# Altium footprint library MAYA-W2.PcbLib: 3 footprints
Each footprint in its own frame and in the unit in brackets; x right, y up, seen from the top. Pads: shape width x height; smd on the part's side, far side on the other; paste and mask are expansions set on the pad; w line width, h text height; cw(c..) or ccw(c..) is an arc to the next point about the centre after c.
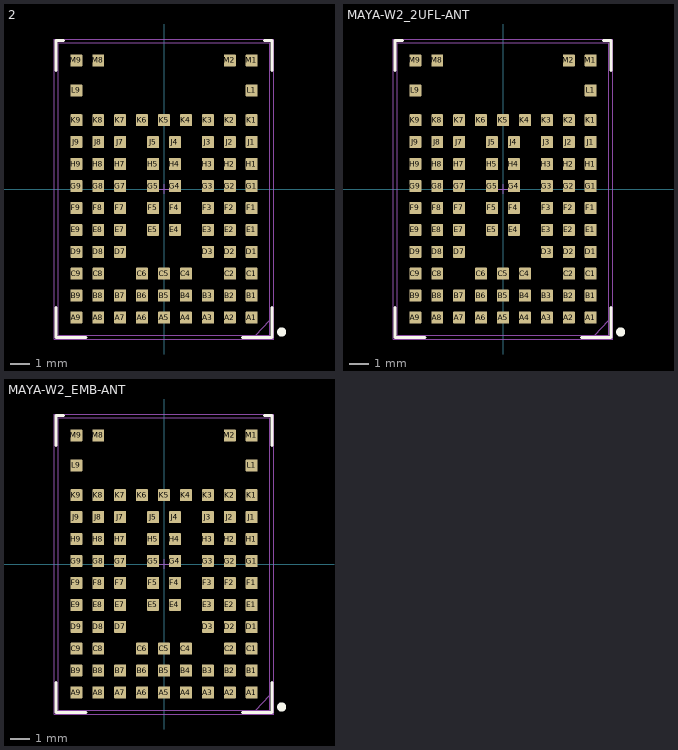
[diagram p0: the footprints below, top view; thin cyan lines are the x and y axes]

## 2 [mm] "MAYA-W2 Footprint 86 Pin,  / Antenna pins connection"
height 2.12
pads (86):
  rrect10% 0.6x0.6 smd mask+0.05: A1(4.4,-6.45) A2(3.3,-6.45) A3(2.2,-6.45) A4(1.1,-6.45) A5(0,-6.45) A6(-1.1,-6.45) A7(-2.2,-6.45) A8(-3.3,-6.45) A9(-4.4,-6.45) B1(4.4,-5.35) B2(3.3,-5.35) B3(2.2,-5.35) B4(1.1,-5.35) B5(0,-5.35) B6(-1.1,-5.35) B7(-2.2,-5.35) B8(-3.3,-5.35) B9(-4.4,-5.35) C1(4.4,-4.25) C2(3.3,-4.25) C4(1.1,-4.25) C5(0,-4.25) C6(-1.1,-4.25) C8(-3.3,-4.25) C9(-4.4,-4.25) D1(4.4,-3.15) D2(3.3,-3.15) D3(2.2,-3.15) D7(-2.2,-3.15) D8(-3.3,-3.15) D9(-4.4,-3.15) E1(4.4,-2.05) E2(3.3,-2.05) E3(2.2,-2.05) E4(0.55,-2.05) E5(-0.55,-2.05) E7(-2.2,-2.05) E8(-3.3,-2.05) E9(-4.4,-2.05) F1(4.4,-0.95) F2(3.3,-0.95) F3(2.2,-0.95) F4(0.55,-0.95) F5(-0.55,-0.95) F7(-2.2,-0.95) F8(-3.3,-0.95) F9(-4.4,-0.95) G1(4.4,0.15) G2(3.3,0.15) G3(2.2,0.15) G4(0.55,0.15) G5(-0.55,0.15) G7(-2.2,0.15) G8(-3.3,0.15) G9(-4.4,0.15) H1(4.4,1.25) H2(3.3,1.25) H3(2.2,1.25) H4(0.55,1.25) H5(-0.55,1.25) H7(-2.2,1.25) H8(-3.3,1.25) H9(-4.4,1.25) J1(4.4,2.35) J2(3.3,2.35) J3(2.2,2.35) J4(0.55,2.35) J5(-0.55,2.35) J7(-2.2,2.35) J8(-3.3,2.35) J9(-4.4,2.35) K1(4.4,3.45) K2(3.3,3.45) K3(2.2,3.45) K4(1.1,3.45) K5(0,3.45) K6(-1.1,3.45) K7(-2.2,3.45) K8(-3.3,3.45) K9(-4.4,3.45) L1(4.4,4.95) L9(-4.4,4.95) M1(4.4,6.45) M2(3.3,6.45) M8(-3.3,6.45) M9(-4.4,6.45)
Top Overlay:
  circle w0.254: c5.9,-7.175 r0.1
  lines w0.15: -5.425,-5.95 -5.425,-7.45 -3.925,-7.45 ; -5.425,5.95 -5.425,7.45 -5.05,7.45 ; 3.925,-7.45 5.425,-7.45 5.425,-5.95 ; 5.05,7.45 5.425,7.45 5.425,5.95
Mechanical 11:
  text ".Designator" at -7.498,-0.5 h1.5
Mechanical 13:
  lines w0.05: 4.6,-7.325 5.3,-6.575 ; -5.3,-7.325 5.3,-7.325 5.3,7.325 -5.3,7.325 -5.3,-7.325
Mechanical 15:
  lines w0.005: -0.25,0 0.25,0 ; 0,-0.25 0,0.25 ; -5.5,-7.525 5.5,-7.525 5.5,7.525 -5.5,7.525 -5.5,-7.525
Multi-Layer:
  pour cut-out: 4.099,6.15 3,6.15 2.997,6.95 5.5,6.95 5.5,7.525 -5.5,7.525 -5.5,6.95 -3.001,6.95 -3.001,6.15 -4.101,6.15 -4.101,3.75 4.099,3.75
3D body "MAYA-W261_W271_REVC.step": height 1.92, standoff 0, extent -5.2,-7.15 5.2,7.15

## MAYA-W2_2UFL-ANT [mm] "MAYA-W2 Footprint 86 Pin,  / U.FL Antenna connection"
height 2.12
pads (86):
  rrect10% 0.6x0.6 smd mask+0.05: A1(4.4,-6.45) A2(3.3,-6.45) A3(2.2,-6.45) A4(1.1,-6.45) A5(0,-6.45) A6(-1.1,-6.45) A7(-2.2,-6.45) A8(-3.3,-6.45) A9(-4.4,-6.45) B1(4.4,-5.35) B2(3.3,-5.35) B3(2.2,-5.35) B4(1.1,-5.35) B5(0,-5.35) B6(-1.1,-5.35) B7(-2.2,-5.35) B8(-3.3,-5.35) B9(-4.4,-5.35) C1(4.4,-4.25) C2(3.3,-4.25) C4(1.1,-4.25) C5(0,-4.25) C6(-1.1,-4.25) C8(-3.3,-4.25) C9(-4.4,-4.25) D1(4.4,-3.15) D2(3.3,-3.15) D3(2.2,-3.15) D7(-2.2,-3.15) D8(-3.3,-3.15) D9(-4.4,-3.15) E1(4.4,-2.05) E2(3.3,-2.05) E3(2.2,-2.05) E4(0.55,-2.05) E5(-0.55,-2.05) E7(-2.2,-2.05) E8(-3.3,-2.05) E9(-4.4,-2.05) F1(4.4,-0.95) F2(3.3,-0.95) F3(2.2,-0.95) F4(0.55,-0.95) F5(-0.55,-0.95) F7(-2.2,-0.95) F8(-3.3,-0.95) F9(-4.4,-0.95) G1(4.4,0.15) G2(3.3,0.15) G3(2.2,0.15) G4(0.55,0.15) G5(-0.55,0.15) G7(-2.2,0.15) G8(-3.3,0.15) G9(-4.4,0.15) H1(4.4,1.25) H2(3.3,1.25) H3(2.2,1.25) H4(0.55,1.25) H5(-0.55,1.25) H7(-2.2,1.25) H8(-3.3,1.25) H9(-4.4,1.25) J1(4.4,2.35) J2(3.3,2.35) J3(2.2,2.35) J4(0.55,2.35) J5(-0.55,2.35) J7(-2.2,2.35) J8(-3.3,2.35) J9(-4.4,2.35) K1(4.4,3.45) K2(3.3,3.45) K3(2.2,3.45) K4(1.1,3.45) K5(0,3.45) K6(-1.1,3.45) K7(-2.2,3.45) K8(-3.3,3.45) K9(-4.4,3.45) L1(4.4,4.95) L9(-4.4,4.95) M1(4.4,6.45) M2(3.3,6.45) M8(-3.3,6.45) M9(-4.4,6.45)
Top Overlay:
  circle w0.254: c5.9,-7.175 r0.1
  lines w0.15: -5.425,-5.95 -5.425,-7.45 -3.925,-7.45 ; -5.425,5.95 -5.425,7.45 -5.05,7.45 ; 3.925,-7.45 5.425,-7.45 5.425,-5.95 ; 5.05,7.45 5.425,7.45 5.425,5.95
Mechanical 11:
  text ".Designator" at -7.498,-0.5 h1.5
Mechanical 13:
  lines w0.05: 4.6,-7.325 5.3,-6.575 ; -5.3,-7.325 -5.3,7.325 5.3,7.325 5.3,-7.325 -5.3,-7.325
Mechanical 15:
  lines w0.005: -0.25,0 0.25,0 ; 0,-0.25 0,0.25 ; -5.5,-7.525 -5.5,7.525 5.5,7.525 5.5,-7.525 -5.5,-7.525
Multi-Layer:
  pour cut-out: 4.099,6.15 3,6.15 2.997,6.95 5.5,6.95 5.5,7.525 -5.5,7.525 -5.5,6.95 -3.001,6.95 -3.001,6.15 -4.101,6.15 -4.101,3.75 4.099,3.75
3D body "MAYA-W260_REVC.step": height 1.92, standoff 0, extent -5.2,-7.15 5.2,7.15

## MAYA-W2_EMB-ANT [mm] "MAYA-W2 Footprint 86 Pin,  / Embedded antenna"
height 2.12
pads (86):
  rrect10% 0.6x0.6 smd mask+0.05: A1(4.4,-6.45) A2(3.3,-6.45) A3(2.2,-6.45) A4(1.1,-6.45) A5(0,-6.45) A6(-1.1,-6.45) A7(-2.2,-6.45) A8(-3.3,-6.45) A9(-4.4,-6.45) B1(4.4,-5.35) B2(3.3,-5.35) B3(2.2,-5.35) B4(1.1,-5.35) B5(0,-5.35) B6(-1.1,-5.35) B7(-2.2,-5.35) B8(-3.3,-5.35) B9(-4.4,-5.35) C1(4.4,-4.25) C2(3.3,-4.25) C4(1.1,-4.25) C5(0,-4.25) C6(-1.1,-4.25) C8(-3.3,-4.25) C9(-4.4,-4.25) D1(4.4,-3.15) D2(3.3,-3.15) D3(2.2,-3.15) D7(-2.2,-3.15) D8(-3.3,-3.15) D9(-4.4,-3.15) E1(4.4,-2.05) E2(3.3,-2.05) E3(2.2,-2.05) E4(0.55,-2.05) E5(-0.55,-2.05) E7(-2.2,-2.05) E8(-3.3,-2.05) E9(-4.4,-2.05) F1(4.4,-0.95) F2(3.3,-0.95) F3(2.2,-0.95) F4(0.55,-0.95) F5(-0.55,-0.95) F7(-2.2,-0.95) F8(-3.3,-0.95) F9(-4.4,-0.95) G1(4.4,0.15) G2(3.3,0.15) G3(2.2,0.15) G4(0.55,0.15) G5(-0.55,0.15) G7(-2.2,0.15) G8(-3.3,0.15) G9(-4.4,0.15) H1(4.4,1.25) H2(3.3,1.25) H3(2.2,1.25) H4(0.55,1.25) H5(-0.55,1.25) H7(-2.2,1.25) H8(-3.3,1.25) H9(-4.4,1.25) J1(4.4,2.35) J2(3.3,2.35) J3(2.2,2.35) J4(0.55,2.35) J5(-0.55,2.35) J7(-2.2,2.35) J8(-3.3,2.35) J9(-4.4,2.35) K1(4.4,3.45) K2(3.3,3.45) K3(2.2,3.45) K4(1.1,3.45) K5(0,3.45) K6(-1.1,3.45) K7(-2.2,3.45) K8(-3.3,3.45) K9(-4.4,3.45) L1(4.4,4.95) L9(-4.4,4.95) M1(4.4,6.45) M2(3.3,6.45) M8(-3.3,6.45) M9(-4.4,6.45)
Top Overlay:
  circle w0.254: c5.9,-7.175 r0.1
  lines w0.15: -5.425,-5.95 -5.425,-7.45 -3.925,-7.45 ; -5.425,5.95 -5.425,7.45 -5.05,7.45 ; 3.925,-7.45 5.425,-7.45 5.425,-5.95 ; 5.05,7.45 5.425,7.45 5.425,5.95
Mechanical 11:
  text ".Designator" at -7.498,-0.5 h1.5
Mechanical 13:
  lines w0.05: 4.6,-7.325 5.3,-6.575 ; -5.3,-7.325 5.3,-7.325 5.3,7.325 -5.3,7.325 -5.3,-7.325
Mechanical 15:
  lines w0.005: -0.25,0 0.25,0 ; 0,-0.25 0,0.25 ; -5.5,-7.525 5.5,-7.525 5.5,7.525 -5.5,7.525 -5.5,-7.525
Multi-Layer:
  pour cut-out: 4.099,6.15 3,6.15 2.997,6.95 5.5,6.95 5.5,7.525 -5.5,7.525 -5.5,6.95 -3.001,6.95 -3.001,6.15 -4.101,6.15 -4.101,3.75 4.099,3.75
3D body "MAYA-W266_W276_REVC.step": height 1.92, standoff 0, extent -5.2,-7.15 5.2,7.15